# EAGLE library part MAX1698 (library microbuilder)
MX1698/MAX1698A - Step-Up Current Regulator for LEDs Digikey: MAX1698EUB+-ND
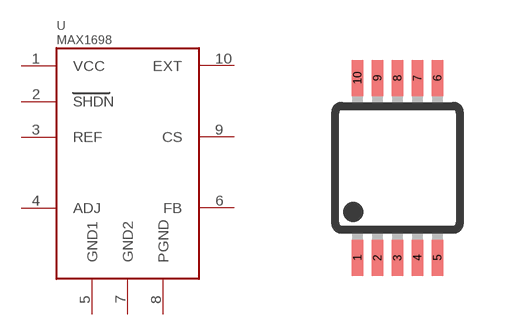
[diagram p41: symbol with the pads of UMAX10; footprint UMAX10]

Designator prefix U

## MAX1698  [UMAX10]
1  VCC
2  SHDN
3  REF
4  ADJ
5  GND1
6  FB
7  GND2
8  PGND
9  CS
10  EXT

## Footprint UMAX10 (pad centres in mm)
micro MAX Package
smd 0.29 x 0.9: 1 -1,-2.25; 2 -0.5,-2.25; 3 0,-2.25; 4 0.5,-2.25; 5 1,-2.25; 6 1,2.25; 7 0.5,2.25; 8 0,2.25; 9 -0.5,2.25; 10 -1,2.25